# Altium schematic symbol library Others_components.SchLib: 2 symbols
Pins are listed as number, name and electrical type; pins without a type are passive.

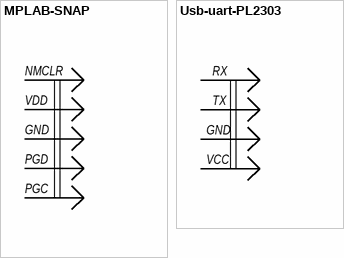
[diagram p0: symbols MPLAB-SNAP to Usb-uart-PL2303]

## MPLAB-SNAP
designator XP?  (no BOM)
ComponentLink1Description: Product link
footprint MPLAB-SNAP
pins: 1, 2, 3, 4, 5
text: NMCLR; VDD; GND; PGD; PGC

## Usb-uart-PL2303
designator XP?  (no BOM)
ComponentLink1Description: Product link
footprint Usb-uart-PL2303
pins: 1, 2, 3, 4
text: RX; TX; GND; VCC